# EAGLE library part IC-NEW_PMIC-CN3065 (library R3Mkr12F_Solar)
310030101
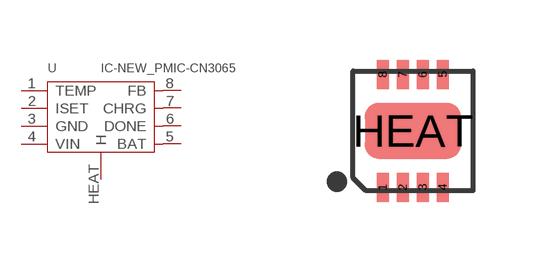
[diagram p1: symbol with the pads of IC-NEW_DFN-8; footprint IC-NEW_DFN-8]

Designator prefix U

## IC-NEW_PMIC-CN3065-DFN8  [IC-NEW_DFN-8]
1  TEMP  in
2  ISET
3  GND  sup
4  VIN  in
5  BAT
6  DONE
7  CHRG
8  FB  in
HEAT  H

## Footprint IC-NEW_DFN-8 (pad centres in mm)
smd 0.3 x 0.727: 1 -0.75,-1.413; 2 -0.25,-1.413; 3 0.25,-1.413; 4 0.75,-1.413; 5 0.75,1.413; 6 0.25,1.413; 7 -0.25,1.413; 8 -0.75,1.413
smd 2.413 x 1.397: HEAT 0,0